# EAGLE library part 612X2020621 (library Wire-to-Board (rev18a))
WR-BHD 2.54mm Male SMT Box Header High Temperature, 20 Pins=>Code : Con_WTB_BHD_2.54_Male_SMT_612X2020621(X=0;X=3) <http://katalog.we-online.de/media/thumbs2/eican/thb_Con_WTB_BHD_2.54_Male_SMT_6120xx20621_pf2.jpg> 6123XX20621: http://katalog.we-online.de/en/em/BHD_2_54_SMT_MALE_BOX_HEADER_REEL_6123XX20621 6120XX20621: http://katalog.we-online.de/en/em/612_0xx_206_21 Created 2014-06-05, Karrer Zheng 2014 (C) Würth Elektronik
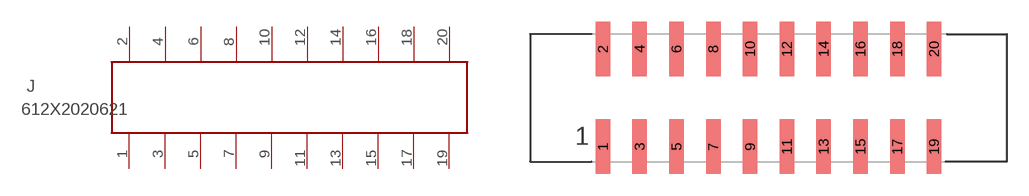
[diagram p105: symbol with the pads of 612X2020621; footprint 612X2020621]

Designator prefix J

## 612X2020621  [612X2020621]
1  1  pas
2  2  pas
3  3  pas
4  4  pas
5  5  pas
6  6  pas
7  7  pas
8  8  pas
9  9  pas
10  10  pas
11  11  pas
12  12  pas
13  13  pas
14  14  pas
15  15  pas
16  16  pas
17  17  pas
18  18  pas
19  19  pas
20  20  pas

## Footprint 612X2020621 (pad centres in mm)
WR-BHD 2.54mm Male SMT Box Header High Temperature, 20 pins
smd 1 x 3.75: 1 -11.43,-3.375; 2 -11.43,3.375; 3 -8.89,-3.375; 4 -8.89,3.375; 5 -6.35,-3.375; 6 -6.35,3.375; 7 -3.81,-3.375; 8 -3.81,3.375; 9 -1.27,-3.375; 10 -1.27,3.375; 11 1.27,-3.375; 12 1.27,3.375; 13 3.81,-3.375; 14 3.81,3.375; 15 6.35,-3.375; 16 6.35,3.375; 17 8.89,-3.375; 18 8.89,3.375; 19 11.43,-3.375; 20 11.43,3.375